# EAGLE library part T-NOTCH (library ABI)
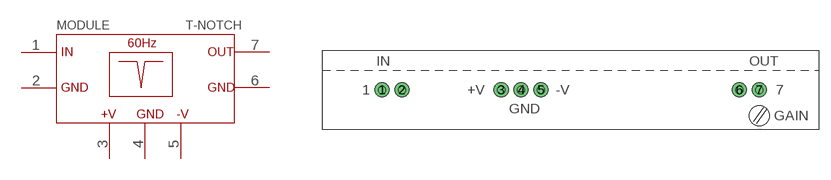
[diagram p5: symbol with the pads of T-NOTCH; footprint T-NOTCH]

Designator prefix MODULE

## T-NOTCH  [T-NOTCH]
1  IN
2  GND-IN
3  +V
4  GND
5  -V
6  GND-OUT
7  OUT

## Footprint T-NOTCH (pad centres in mm)
drill 1.016 pad 1.778 round: 1 -24.13,0; 2 -21.59,0; 3 -8.89,0; 4 -6.35,0; 5 -3.81,0; 6 21.59,0; 7 24.13,0